# Altium schematic symbol library Ind10uH.SchLib: 2 symbols
Pins are listed as number, name and electrical type; pins without a type are passive.

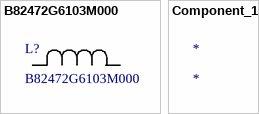
[diagram p0: symbols B82472G6103M000 to Component_1]

## B82472G6103M000
designator L?
No Description Available; Vendor: Epcos; Built_By: EMA_UL_Team; SourceLibrary: Epcos_2010-01-01_Inductors; Type: DEV; Manufacturer_Part_Number: B82472G6103M000; Copyright: Copyright (C) 2018 Accelerated Designs. All rights reserved; RefDes: RefDes
footprint IND_EPCOS_B82472G6_EPC
pins: 1, 2

## Component_1
designator *